# Altium schematic symbol library FerriteBead.SchLib: 3 symbols
Pins are listed as number, name and electrical type; pins without a type are passive.

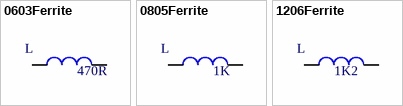
[diagram p0: symbols 0603Ferrite to 1206Ferrite]

## 0603Ferrite
designator L  value 470R  (hidden comment: *)
Manufacturer Code: BLM18PG471SN1D; Manufacturer: MURATA; Current: 1A; Farnell Code: 1515745; Unit Price: 0,0538 €; MOQ: 10
footprint 0603 Inductor (Footprint not found)
pins: 1, 2

## 0805Ferrite
designator L  value 1K  (hidden comment: *)
Manufacturer Code: MMZ2012R102A; Manufacturer: TDK; Current: 500mA; Farnell Code: 1669719; Unit Price: 0,059 €
footprint 0805 Inductor (Footprint not found)
pins: 1, 2

## 1206Ferrite
designator L  value 1K2  (hidden comment: *)
Manufacturer Code: MLB-321611-1200PL; Manufacturer: MEC MARCOM; Current: 1A; Farnell Code: 1308794; Unit Price: 0,30 €
footprint 1206 Inductor
pins: 1, 2